# Altium footprint library 3Delight.PcbLib: 131 footprints (part 2 of 9)
Each footprint in its own frame and in the unit in brackets; x right, y up, seen from the top. Pads: shape width x height; smd on the part's side, far side on the other; paste and mask are expansions set on the pad; w line width, h text height; cw(c..) or ccw(c..) is an arc to the next point about the centre after c.
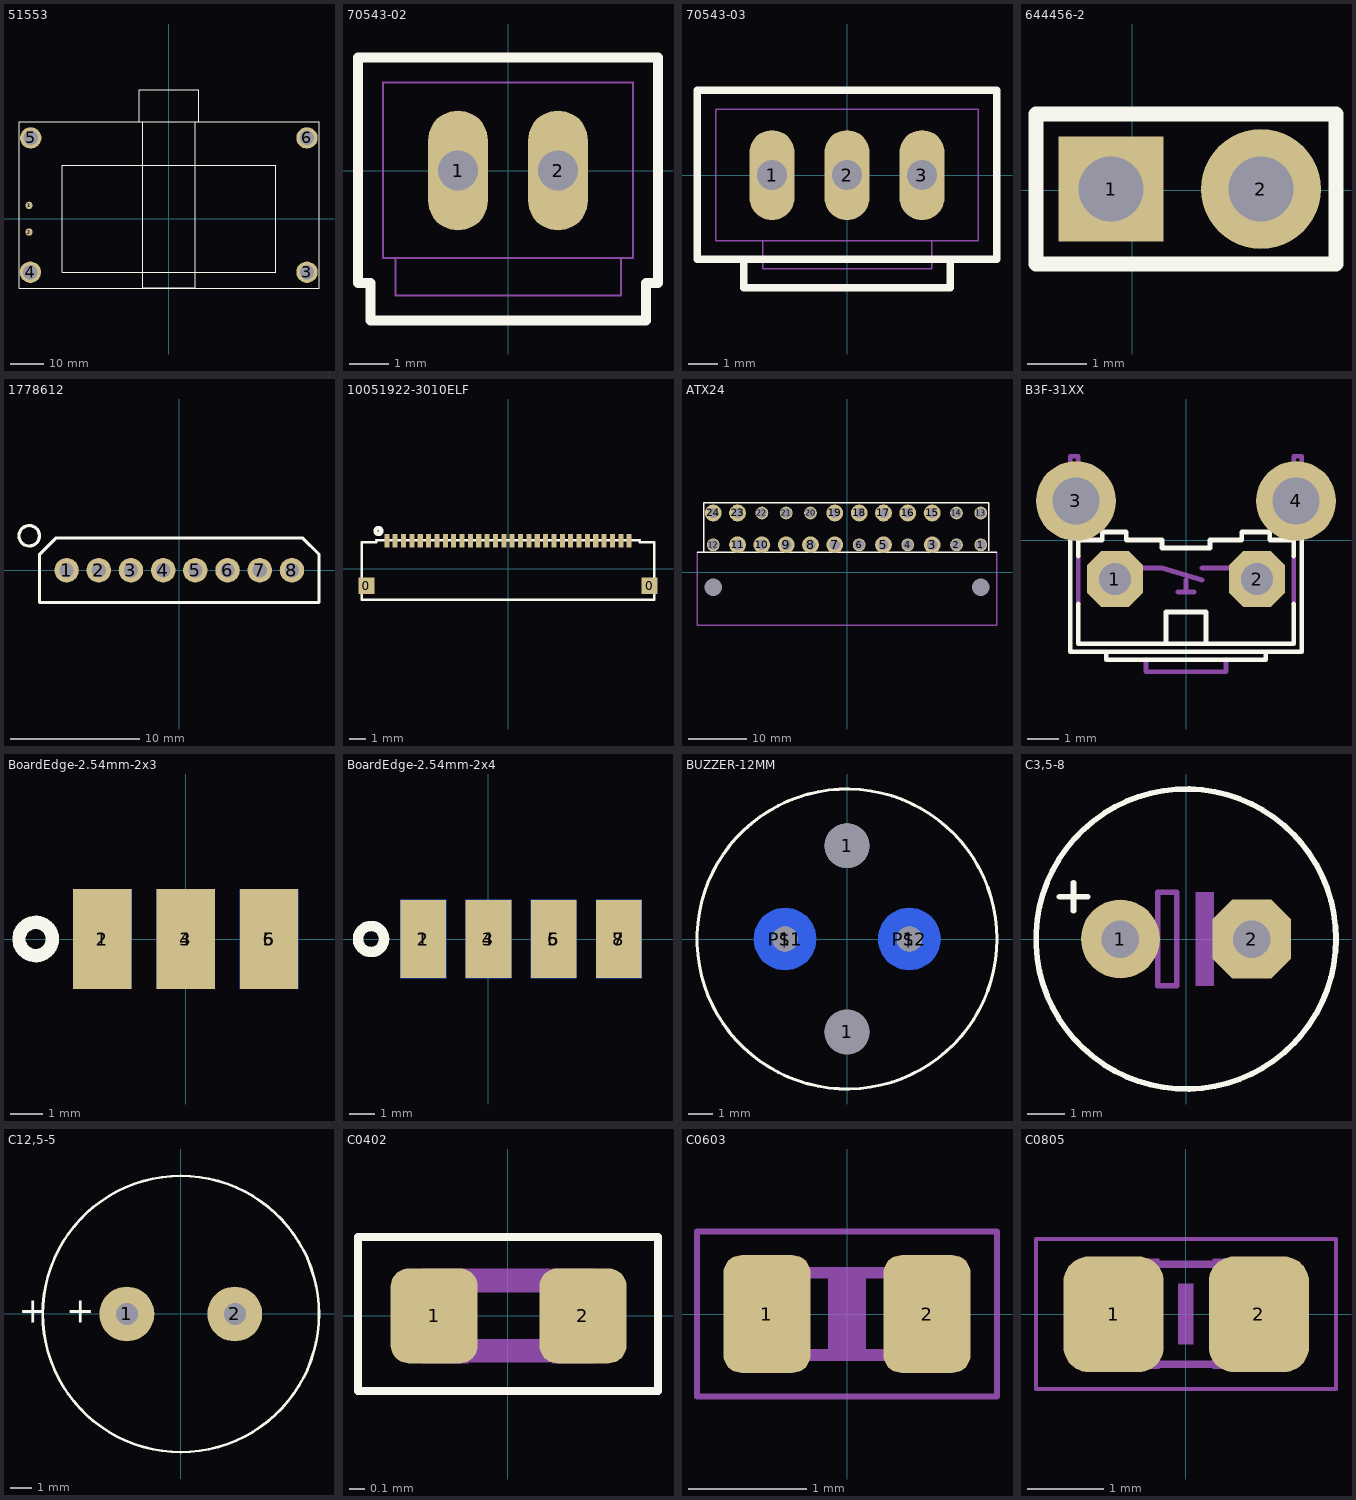
[diagram p1: the footprints below, top view; thin cyan lines are the x and y axes]

## 51553 [mm]
pads (6):
  round 2.2 hole 1 paste-99: 1(-41.85,4.01) 2(-41.85,-3.99)
  round 6.4 hole 4.3 paste-99: 3(41.35,-16) 4(-41.45,-16) 5(-41.35,24.2) 6(41.35,24.2)
Top Overlay:
  lines w0.254: -8.85,29 -8.85,38.6 8.95,38.6 8.95,29 ; -7.75,29 -7.75,-20.7 7.85,-20.7 7.85,29 ; -44.85,-20.8 44.95,-20.8 44.95,29 -44.85,29 -44.85,-20.8 ; -31.95,-16 32.05,-16 32.05,16 -31.95,16 -31.95,-16
3D body: height 11, standoff 6, extent 7.851,-15.999 32.049,15.999
3D body: height 6, standoff 0, extent 38.275,-19.094 44.45,-12.906
3D body: height 6, standoff 0, extent 38.275,21.106 44.45,27.294
3D body: height 6, standoff 0, extent -44.425,21.106 -38.25,27.294
3D body: height 6, standoff 0, extent -44.525,-19.094 -38.35,-12.906
3D body: height 12, standoff 0, extent -8.849,29.001 8.949,38.599
3D body: height 12, standoff 6, extent -7.749,-20.699 7.849,-16.001
3D body: height 12, standoff 6, extent -7.749,16.001 7.849,28.999
3D body: height 12, standoff 6, extent -44.849,-20.799 44.949,28.999
3D body: height 11, standoff 6, extent -31.949,-15.999 -7.751,15.999
3D body: height 11, standoff 6, extent -7.749,-15.999 7.849,15.999

## 70543-02 [mil]
pads (2):
  oval 60x120 hole 40: 1(-50,0) 2(50,0)
Top Overlay:
  lines w10: -150,-112.5 -137.5,-112.5 -137.5,-150 138,-150 138,-112.5 150,-112.5 150,113 -150,113 -150,-112.5
Top Document:
  rectangle: -59.37,-9.37 -40.63,10
  rectangle: 41,-9.37 60,10
  lines w2: -112.5,-87.5 -112.5,-125 113,-125 113,-87.5 ; -112.5,-87.5 113,-87.5 ; -112.5,-87.5 -125,-87.5 -125,88 125,88 125,-87.5 113,-87.5
  text "1" at -112.5,-62.5 h62
3D body: height 450, standoff 118.11, extent -149.98,-149.98 149.98,112.98
3D body: height 118.11, standoff 0, extent -149.98,-112.48 149.98,112.98

## 70543-03 [mil]
pads (3):
  oval 60x120 hole 40: 1(-100,0) 2(0,0) 3(100,0)
Top Overlay:
  lines w10: -137.5,-112.5 -137.5,-150 138,-150 138,-112.5 ; -137.5,-112.5 -200,-112.5 -200,113 200,113 200,-112.5 138,-112.5 ; -137.5,-112.5 138,-112.5
Top Document:
  rectangle: 91,-9.37 110,10
  rectangle: -109.37,-9.37 -90.63,10
  rectangle: -9.37,-9.37 10,10
  lines w2: -112.5,-87.5 -112.5,-125 113,-125 113,-87.5 ; -112.5,-87.5 113,-87.5 ; -112.5,-87.5 -175,-87.5 -175,88 175,88 175,-87.5 113,-87.5
  text "1" at -162.5,-62.5 h62
3D body: height 450, standoff 118.11, extent -137.48,-149.98 137.98,-112.52
3D body: height 450, standoff 0, extent -199.98,-112.48 199.98,112.98

## 644456-2 [mil]
pads (2):
  rect 70x70 hole 43.31: 1(-14.25,0.85)
  round 80 hole 43.31: 2(85.75,0.85)
Top Overlay:
  lines w10: -64.26,-49.15 135.76,-49.16 135.77,50.87 -64.26,50.86 -64.26,-49.15

## 1778612 [mm] "Connector 8 pin 2.5mm Pin in Paste"
pads (8):
  round 1.9 hole 1.1 paste-0.05: 1(-8.75,0) 2(-6.25,0) 3(-3.75,0) 4(-1.25,0) 5(1.25,0) 6(3.75,0) 7(6.25,0) 8(8.75,0)
Top Overlay:
  circle w0.254: c-11.65,2.675 r0.795
  lines w0.254: -10.85,0.95 -10.85,1.15 -10.85,1.25 ; -10.85,1.25 -10.85,-2.5 10.85,-2.5 10.85,1.25 9.6,2.5 -9.6,2.5 -10.85,1.25
Top Paste:
  circle w0.9: c8.75,0 r0.45
  circle w0.9: c6.25,0 r0.45
  circle w0.9: c3.75,0 r0.45
  circle w0.9: c1.25,0 r0.45
  circle w0.9: c-1.25,0 r0.45
  circle w0.9: c-3.75,0 r0.45
  circle w0.9: c-6.25,0 r0.45
  circle w0.9: c-8.75,0 r0.45
3D body: height 7.5, standoff 0, extent -10.851,-2.501 10.851,2.501

## 10051922-3010ELF [mm]
pads (32):
  rect 0.95x1 smd: 0(-8.475,-1.025) 0(8.475,-1.028)
  rect 0.3x0.8 smd: 1(-7.25,1.675) 2(-6.75,1.675) 3(-6.25,1.675) 4(-5.75,1.675) 5(-5.25,1.675) 6(-4.75,1.675) 7(-4.25,1.675) 8(-3.75,1.675) 9(-3.25,1.675) 10(-2.75,1.675) 11(-2.25,1.675) 12(-1.75,1.675) 13(-1.25,1.675) 14(-0.75,1.675) 15(-0.25,1.675) 16(0.25,1.675) 17(0.75,1.675) 18(1.25,1.675) 19(1.75,1.675) 20(2.25,1.675) 21(2.75,1.675) 22(3.25,1.675) 23(3.75,1.675) 24(4.25,1.675) 25(4.75,1.675) 26(5.25,1.675) 27(5.75,1.675) 28(6.25,1.675) 29(6.75,1.675) 30(7.25,1.675)
Top Overlay:
  circle w0.254: c-7.75,2.25 r0.177
  lines w0.152: -8.75,-1.875 8.75,-1.875 8.75,1.575 7.875,1.575 7.875,1.7 -7.875,1.7 -7.875,1.575 -8.75,1.575 -8.75,-1.875
3D body "s10051922_3010elf.stp": height 1.27, standoff -0.03, extent -8.75,-1.775 8.75,1.975

## ATX24 [mm]
pads (26):
  round 0 hole 3 unplated paste-99 mask-0.102: 0(-23.1,-2.54) 1(23.1,-2.54)
  round 2.21 hole 1.8 paste-99: 1(23.1,4.76) 2(18.9,4.76) 4(10.5,4.76) 6(2.1,4.76) 12(-23.1,4.76) 13(23.1,10.26) 14(18.9,10.26) 20(-6.3,10.26) 21(-10.5,10.26) 22(-14.7,10.26)
  round 2.9 hole 1.8 paste-99: 3(14.7,4.76) 5(6.3,4.76) 7(-2.1,4.76) 8(-6.3,4.76) 9(-10.5,4.76) 10(-14.7,4.76) 11(-18.9,4.76) 15(14.7,10.26) 16(10.5,10.26) 17(6.3,10.26) 18(2.1,10.26) 19(-2.1,10.26) 23(-18.9,10.26) 24(-23.1,10.26)
Top Overlay:
  lines w0.254: -25.9,3.5 25.9,3.5 ; -24.7,3.6 -24.7,12 24.5,12 24.5,3.7
Top Document:
  lines w0.254: -25.9,3.5 -25.9,-9.1 25.9,-9.1 25.9,3.5
3D body: height 20, standoff 0, extent -25.899,-9.099 25.899,3.499
3D body: height 10, standoff 0, extent -24.652,-4.04 24.6,11.812

## B3F-31XX [mil]
pads (4):
  oct 70x70 hole 40: 1(-89,-49) 2(89,-49)
  round 100 hole 59: 3(-138,49) 4(138,49)
Top Overlay:
  lines w6: -145,0 -145,-140 100,-140 ; -135,-80 -135,-130 -25,-130 ; -135,-20 -135,0 -105,0 -105,10 -75,10 -75,0 -30,0 -30,-10 30,-10 30,0 70,0 70,10 105,10 105,0 135,0 135,-20 ; -100,-140 -100,-150 -50,-150 50,-150 100,-150 100,-140 ; 135,-80 135,-130 25,-130 ; 145,0 145,-140 100,-140 ; -25,-130 -25,-90 25,-90 25,-130 ; -25,-130 25,-130
Top Document:
  lines w6: -145,0 -145,105 -135,105 -135,0 ; -135,-80 -135,-20 ; -65,-35 -30,-35 20,-50 ; -50,-150 -50,-165 50,-165 50,-150 ; -10,-65 0,-65 ; 0,-50 0,-65 ; 10,-65 0,-65 ; 20,-35 65,-35 ; 135,-80 135,-20 ; 135,0 135,105 145,105 145,0
3D body "c-1571610-2-c-3d.stp": height 303.15, standoff -137.8, extent -165.35,-200 165.35,109.06

## BoardEdge-2.54mm-2x3 [mil]
pads (6):
  rect 70x120 smd paste-75: 1(-100,0) 3(0,0) 5(100,0)
  rect 70x120 smd far side paste-75: 2(-100,0) 4(0,0) 6(100,0)
Top Overlay:
  circle w16: c-180,0 r20
3D body: height 1, standoff 0, extent -139,-64 139,64

## BoardEdge-2.54mm-2x4 [mil]
pads (8):
  rect 70x120 smd paste-75: 1(-100,0) 3(0,0) 5(100,0) 7(200,0)
  rect 70x120 smd far side paste-75: 2(-100,0) 4(0,0) 6(100,0) 8(200,0)
Top Overlay:
  circle w16: c-180,0 r20
3D body: height 1, standoff 0, extent -139,-64 239,64

## BUZZER-12MM [mil]
pads (6):
  round 40 hole 40: 1(-98.43,0) 1(99,0)
  round 71 hole 71: 1(0,-147.64) 1(0,148)
  rrect100% 99x99 smd far side: P$1(-98.43,0) P$2(99,0)
Top Overlay:
  circle w5: c0,0 r238.19
3D body: height 354.33, standoff 0, extent -238.17,-238.17 238.17,238.17

## C3,5-8 [mil]
pads (2):
  round 84 hole 40: 1(-70,0)
  oct 84x84 hole 40: 2(70,0)
Top Overlay:
  circle w6: c0,0 r160
  lines w6: -135,45 -105,45 ; -120,30 -120,60
Top Document:
  rectangle: 10,-50 30,50
  lines w6: -65,0 -30,0 ; 25,0 65,0 ; -30,0 -30,-50 -10,-50 -10,50 -30,50 -30,0
3D body: height 511.81, standoff 0, extent -159.98,-159.98 159.98,159.98

## C12,5-5 [mm]
pads (2):
  round 2.54 hole 1.016: 1(-2.5,0) 2(2.5,0)
Top Overlay:
  circle w0.127: c0,0 r6.401
  text "+" at -7.5,-0.8 h1.97
  text "+" at -5.3,-0.8 h1.97
3D body: height 20, standoff 0, extent -6.4,-6.4 6.4,6.4

## C0402 [mil]
pads (2):
  rrect40% 22x24 smd: 1(-18.7,0) 2(19,0)
Top Overlay:
  lines w2: -37.99,-19.02 -37.99,20 38,20 38,-19.02 -37.99,-19.02
Top Document:
  rectangle: -21.8,-12 -9.98,12
  rectangle: 11,-12 22,12
  lines w6: -9.65,-8.82 10,-8.82 ; -9.65,9 10,9
Top Courtyard:
  lines w2: -37.99,-19.02 38,-19.02 38,20 -37.99,20 -37.99,-19.02
3D body: height 19.68, standoff 0, extent -20,-10 20,10

## C0603 [mm]
pads (2):
  rrect40% 0.74x1 smd: 1(-0.68,0) 2(0.68,0)
Mechanical 6:
  rectangle: -0.16,-0.3 0.16,0.3
Top Document:
  rectangle: -0.8,-0.4 -0.45,0.4
  rectangle: 0.45,-0.4 0.8,0.4
  lines w0.1: -0.45,0.35 0.45,0.35
  lines w0.102: -0.45,-0.35 0.45,-0.35
Top Courtyard:
  lines w0.051: -1.275,-0.7 1.275,-0.7 1.275,0.7 -1.275,0.7 -1.275,-0.7
3D body: height 0.8, standoff 0, extent -0.8,-0.4 0.8,0.4

## C0805 [mil]
pads (2):
  rrect50% 52x60 smd: 1(-37.4,0) 2(38,0)
Mechanical 6:
  rectangle: -3.94,-15.75 4,16
Top Document:
  rectangle: 14,-28.5 44,29
  rectangle: -43,-28.5 -13.47,29
  lines w4: -15,26 15,26 ; -14.02,-25.98 15,-25.98
Top Courtyard:
  lines w2: -77.68,-38.7 -77.68,39 78,39 78,-38.7 -77.68,-38.7
3D body: height 35.43, standoff 0, extent -40,-30 40,30